# Altium footprint library IMX291.PcbLib: 11 footprints
Each footprint in its own frame and in the unit in brackets; x right, y up, seen from the top. Pads: shape width x height; smd on the part's side, far side on the other; paste and mask are expansions set on the pad; w line width, h text height; cw(c..) or ccw(c..) is an arc to the next point about the centre after c.
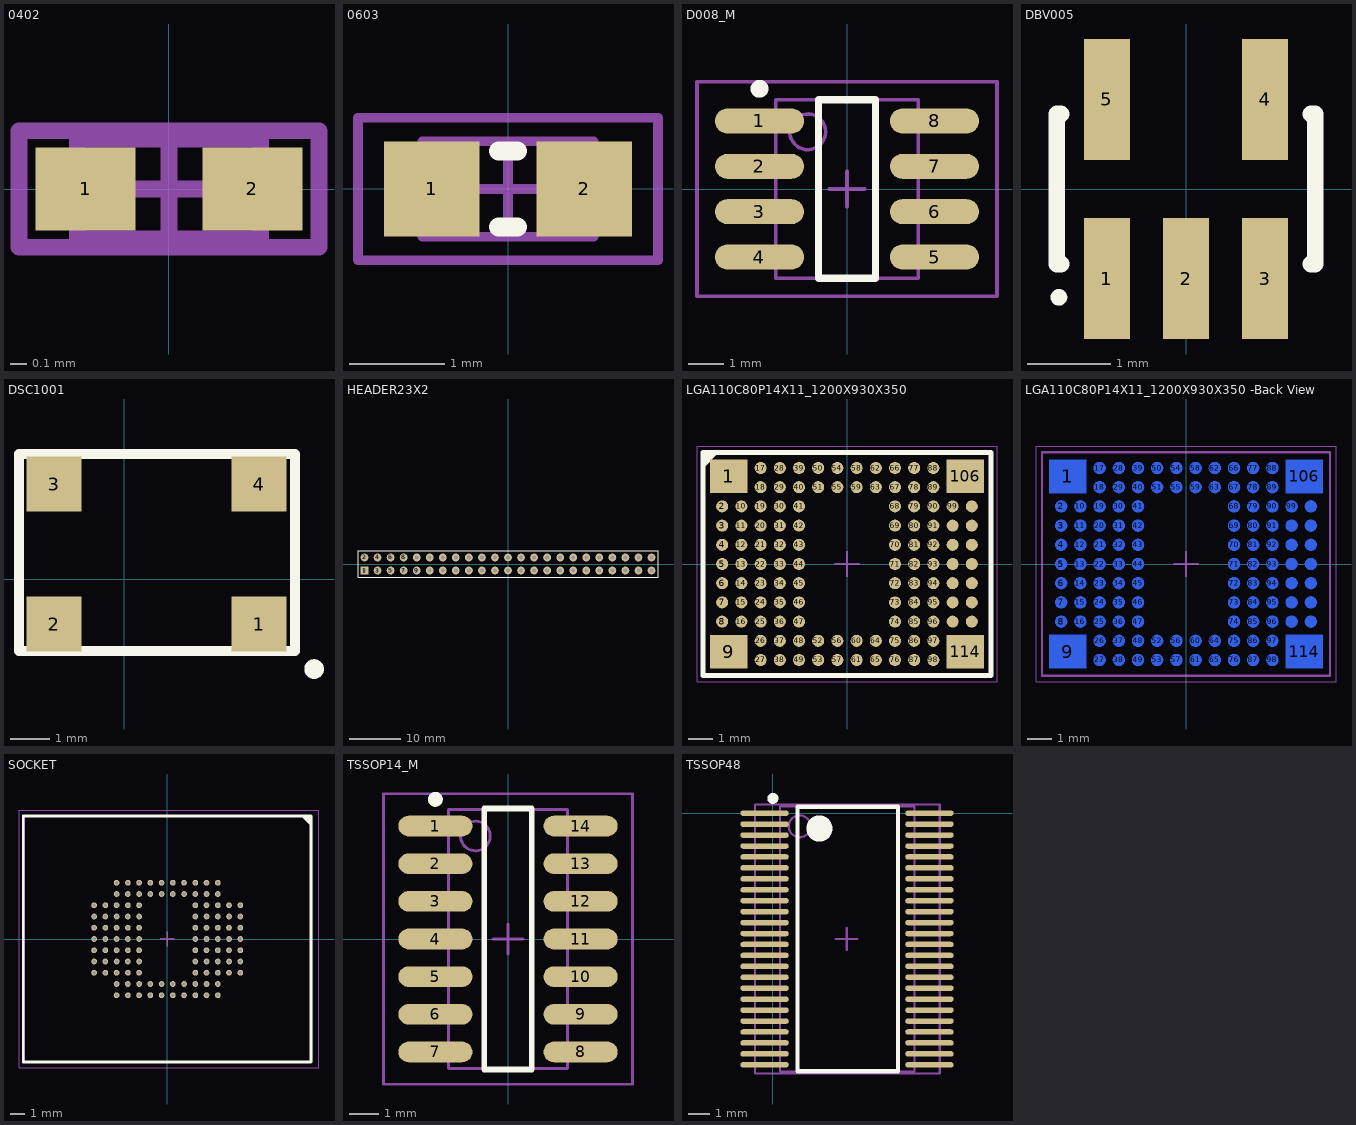
[diagram p0: the footprints below, top view; thin cyan lines are the x and y axes]

## 0402 [mm] "Chip Capacitor, Body 1.0x0.5mm, IPC High Density"
height 1.3
pads (2):
  rect 0.6x0.5 smd: 1(-0.5,0) 2(0.5,0)
Mechanical 13:
  lines w0.1: -0.55,-0.3 0.55,-0.3 0.55,0.3 -0.55,0.3 -0.55,-0.3
Mechanical 15:
  lines w0.1: -0.3,0 0.3,0 ; 0,-0.3 0,0.3 ; -0.9,-0.35 0.9,-0.35 0.9,0.35 -0.9,0.35 -0.9,-0.35
3D body: height 1.3, standoff 0, extent -0.55,-0.3 0.55,0.3

## 0603 [mm] "Chip Capacitor, 2-Leads, Body 1.6x0.8mm, IPC Medium Density"
height 0.87
pads (2):
  rect 1x1 smd: 1(-0.8,0) 2(0.8,0)
Top Overlay:
  lines w0.2: -0.1,-0.4 0.1,-0.4 ; -0.1,0.4 0.1,0.4
Mechanical 13:
  lines w0.1: -0.9,-0.5 0.9,-0.5 0.9,0.5 -0.9,0.5 -0.9,-0.5
Mechanical 15:
  lines w0.1: -0.5,0 0.5,0 ; 0,-0.5 0,0.5 ; -1.575,-0.75 1.575,-0.75 1.575,0.75 -1.575,0.75 -1.575,-0.75
3D body: height 0.87, standoff 0, extent -0.9,-0.5 0.9,0.5

## D008_M [mm] "8-Pin Small Outline Integrated Circuit 1.27 mm Pitch, IPC Low Density"
height 1.75
pads (8):
  oval 2.5x0.7 smd: 1(-2.45,1.905) 2(-2.45,0.635) 3(-2.45,-0.635) 4(-2.45,-1.905) 5(2.45,-1.905) 6(2.45,-0.635) 7(2.45,0.635) 8(2.45,1.905)
Top Overlay:
  circle w0.25: c-2.45,2.805 r0.125
  lines w0.2: -0.8,-2.5 -0.8,2.5 0.8,2.5 0.8,-2.5 -0.8,-2.5
Mechanical 13:
  circle w0.1: c-1.1,1.6 r0.5
  lines w0.1: -2,-2.5 -2,2.5 2,2.5 2,-2.5 -2,-2.5
Mechanical 15:
  lines w0.1: -0.5,0 0.5,0 ; 0,-0.5 0,0.5 ; -4.2,-3 -4.2,3 4.2,3 4.2,-3 -4.2,-3
3D body: height 1.75, standoff 0, extent -2,-2.5 2,2.5

## DBV005 [mm] "SOT-23/SC-74A; 5 Leads; Body 3 x 3 mm, inc. leads (LxW max)"
height 1.45
pads (5):
  rect 0.55x1.45 smd: 1(-0.95,-1.075) 2(0,-1.075) 3(0.95,-1.075) 4(0.95,1.075) 5(-0.95,1.075)
Top Overlay:
  circle w0.1: c-1.525,-1.3 r0.05
  lines w0.2: -1.5,-0.9 -1.55,-0.9 -1.55,0.9 -1.5,0.9 ; 1.5,-0.9 1.55,-0.9 1.55,0.9 1.5,0.9

## DSC1001 [mil]
pads (4):
  rect 55x55 smd paste+0 mask+0: 1(135,-45) 2(-70,-45) 3(-70,95) 4(135,95)
Top Overlay:
  circle w9.84: c190,-90 r4.92
Top Overlay keep-out:
  lines w10: -105,-72 -105,125 171,125 171,-72 -105,-72

## HEADER23X2 [mil] "HEADER23X2"
pads (46):
  rect 60x60 hole 30 mask+2: 1(-1100,-50)
  round 60 hole 30 mask+2: 2(-1100,50) 3(-1000,-50) 4(-1000,50) 5(-900,-50) 6(-900,50) 7(-800,-50) 8(-800,50) 9(-700,-50) 10(-700,50) 11(-600,-50) 12(-600,50) 13(-500,-50) 14(-500,50) 15(-400,-50) 16(-400,50) 17(-300,-50) 18(-300,50) 19(-200,-50) 20(-200,50) 21(-100,-50) 22(-100,50) 23(0,-50) 24(0,50) 25(100,-50) 26(100,50) 27(200,-50) 28(200,50) 29(300,-50) 30(300,50) 31(400,-50) 32(400,50) 33(500,-50) 34(500,50) 35(600,-50) 36(600,50) 37(700,-50) 38(700,50) 39(800,-50) 40(800,50) 41(900,-50) 42(900,50) 43(1000,-50) 44(1000,50) 45(1100,-50) 46(1100,50)
Top Overlay:
  lines w1: -1150,-100 -1150,100 -1050,100 1150,100 1150,-100 -1050,-100 -1150,-100
Bottom Overlay:
  text ".Designator" at 1237.5,-25 h40

## LGA110C80P14X11_1200X930X350 [mm] "LGA, 110-Leads, Body 12.00x9.30mmx3.50mm, Pitch 0.80mm"
height 3.5
pads (114):
  rect 1.55x1.4 smd: 1(-4.925,3.65) 9(-4.925,-3.65) 106(4.925,3.65) 114(4.925,-3.65)
  round 0.5 smd: 2(-5.2,2.4) 3(-5.2,1.6) 4(-5.2,0.8) 5(-5.2,0) 6(-5.2,-0.8) 7(-5.2,-1.6) 8(-5.2,-2.4) 10(-4.4,2.4) 11(-4.4,1.6) 12(-4.4,0.8) 13(-4.4,0) 14(-4.4,-0.8) 15(-4.4,-1.6) 16(-4.4,-2.4) 17(-3.6,4) 18(-3.6,3.2) 19(-3.6,2.4) 20(-3.6,1.6) 21(-3.6,0.8) 22(-3.6,0) 23(-3.6,-0.8) 24(-3.6,-1.6) 25(-3.6,-2.4) 26(-3.6,-3.2) 27(-3.6,-4) 28(-2.8,4) 29(-2.8,3.2) 30(-2.8,2.4) 31(-2.8,1.6) 32(-2.8,0.8) 33(-2.8,0) 34(-2.8,-0.8) 35(-2.8,-1.6) 36(-2.8,-2.4) 37(-2.8,-3.2) 38(-2.8,-4) 39(-2,4) 40(-2,3.2) 41(-2,2.4) 42(-2,1.6) 43(-2,0.8) 44(-2,0) 45(-2,-0.8) 46(-2,-1.6) 47(-2,-2.4) 48(-2,-3.2) 49(-2,-4) 50(-1.2,4) 51(-1.2,3.2) 52(-1.2,-3.2) 53(-1.2,-4) 54(-0.4,4) 55(-0.4,3.2) 56(-0.4,-3.2) 57(-0.4,-4) 58(0.4,4) 59(0.4,3.2) 60(0.4,-3.2) 61(0.4,-4) 62(1.2,4) 63(1.2,3.2) 64(1.2,-3.2) 65(1.2,-4) 66(2,4) 67(2,3.2) 68(2,2.4) 69(2,1.6) 70(2,0.8) 71(2,0) 72(2,-0.8) 73(2,-1.6) 74(2,-2.4) 75(2,-3.2) 76(2,-4) 77(2.8,4) 78(2.8,3.2) 79(2.8,2.4) 80(2.8,1.6) 81(2.8,0.8) 82(2.8,0) 83(2.8,-0.8) 84(2.8,-1.6) 85(2.8,-2.4) 86(2.8,-3.2) 87(2.8,-4) 88(3.6,4) 89(3.6,3.2) 90(3.6,2.4) 91(3.6,1.6) 92(3.6,0.8) 93(3.6,0) 94(3.6,-0.8) 95(3.6,-1.6) 96(3.6,-2.4) 97(3.6,-3.2) 98(3.6,-4) 99(4.4,2.4) 100(4.4,1.6) 101(4.4,0.8) 102(4.4,0) 103(4.4,-0.8) 104(4.4,-1.6) 105(4.4,-2.4) 107(5.2,2.4) 108(5.2,1.6) 109(5.2,0.8) 110(5.2,0) 111(5.2,-0.8) 112(5.2,-1.6) 113(5.2,-2.4)
Top Overlay:
  region: -5.469,4.65 -6,4.119 -6,4.65
  lines w0.2: -6,4.119 -5.469,4.65 ; -6,-4.65 6,-4.65 6,4.65 -6,4.65 -6,-4.65
Mechanical 13:
  lines w0.1: -6,-4.65 -6,4.65 6,4.65 6,-4.65 -6,-4.65
Mechanical 15:
  lines w0.05: -6.25,-4.9 -6.25,4.9 6.25,4.9 6.25,-4.9 -6.25,-4.9
  lines w0.1: -0.5,0 0.5,0 ; 0,-0.5 0,0.5
3D body: height 3.5, standoff 0.1, extent -6,-4.65 6,4.65

## LGA110C80P14X11_1200X930X350 -Back View [mm]
pads (114):
  rect 1.55x1.4 smd far side: 1(-4.925,3.65) 9(-4.925,-3.65) 106(4.925,3.65) 114(4.925,-3.65)
  round 0.5 smd far side: 2(-5.2,2.4) 3(-5.2,1.6) 4(-5.2,0.8) 5(-5.2,0) 6(-5.2,-0.8) 7(-5.2,-1.6) 8(-5.2,-2.4) 10(-4.4,2.4) 11(-4.4,1.6) 12(-4.4,0.8) 13(-4.4,0) 14(-4.4,-0.8) 15(-4.4,-1.6) 16(-4.4,-2.4) 17(-3.6,4) 18(-3.6,3.2) 19(-3.6,2.4) 20(-3.6,1.6) 21(-3.6,0.8) 22(-3.6,0) 23(-3.6,-0.8) 24(-3.6,-1.6) 25(-3.6,-2.4) 26(-3.6,-3.2) 27(-3.6,-4) 28(-2.8,4) 29(-2.8,3.2) 30(-2.8,2.4) 31(-2.8,1.6) 32(-2.8,0.8) 33(-2.8,0) 34(-2.8,-0.8) 35(-2.8,-1.6) 36(-2.8,-2.4) 37(-2.8,-3.2) 38(-2.8,-4) 39(-2,4) 40(-2,3.2) 41(-2,2.4) 42(-2,1.6) 43(-2,0.8) 44(-2,0) 45(-2,-0.8) 46(-2,-1.6) 47(-2,-2.4) 48(-2,-3.2) 49(-2,-4) 50(-1.2,4) 51(-1.2,3.2) 52(-1.2,-3.2) 53(-1.2,-4) 54(-0.4,4) 55(-0.4,3.2) 56(-0.4,-3.2) 57(-0.4,-4) 58(0.4,4) 59(0.4,3.2) 60(0.4,-3.2) 61(0.4,-4) 62(1.2,4) 63(1.2,3.2) 64(1.2,-3.2) 65(1.2,-4) 66(2,4) 67(2,3.2) 68(2,2.4) 69(2,1.6) 70(2,0.8) 71(2,0) 72(2,-0.8) 73(2,-1.6) 74(2,-2.4) 75(2,-3.2) 76(2,-4) 77(2.8,4) 78(2.8,3.2) 79(2.8,2.4) 80(2.8,1.6) 81(2.8,0.8) 82(2.8,0) 83(2.8,-0.8) 84(2.8,-1.6) 85(2.8,-2.4) 86(2.8,-3.2) 87(2.8,-4) 88(3.6,4) 89(3.6,3.2) 90(3.6,2.4) 91(3.6,1.6) 92(3.6,0.8) 93(3.6,0) 94(3.6,-0.8) 95(3.6,-1.6) 96(3.6,-2.4) 97(3.6,-3.2) 98(3.6,-4) 99(4.4,2.4) 100(4.4,1.6) 101(4.4,0.8) 102(4.4,0) 103(4.4,-0.8) 104(4.4,-1.6) 105(4.4,-2.4) 107(5.2,2.4) 108(5.2,1.6) 109(5.2,0.8) 110(5.2,0) 111(5.2,-0.8) 112(5.2,-1.6) 113(5.2,-2.4)
Bottom Overlay:
  region: -5.469,4.65 -6,4.119 -6,4.65
  lines w0.2: -6,4.119 -5.469,4.65 ; -6,-4.65 6,-4.65 6,4.65 -6,4.65 -6,-4.65
Mechanical 13:
  lines w0.1: -6,-4.65 6,-4.65 6,4.65 -6,4.65 -6,-4.65
Mechanical 15:
  lines w0.05: -6.25,-4.9 6.25,-4.9 6.25,4.9 -6.25,4.9 -6.25,-4.9
  lines w0.1: -0.5,0 0.5,0 ; 0,-0.5 0,0.5
3D body: height 3.5, standoff 0.1, extent -6,-4.65 6,4.65

## SOCKET [mil]
pads (110):
  round 16 hole 10 mask+0: 2(204.72,94.49) 3(204.72,62.99) 4(204.72,31.5) 5(204.72,0) 6(204.72,-31.5) 7(204.72,-62.99) 8(204.72,-94.49) 10(173.23,94.49) 11(173.23,62.99) 12(173.23,31.5) 13(173.23,0) 14(173.23,-31.5) 15(173.23,-62.99) 16(173.23,-94.49) 17(141.73,157.48) 18(141.73,125.98) 19(141.73,94.49) 20(141.73,62.99) 21(141.73,31.5) 22(141.73,0) 23(141.73,-31.5) 24(141.73,-62.99) 25(141.73,-94.49) 26(141.73,-125.98) 27(141.73,-157.48) 28(110.24,157.48) 29(110.24,125.98) 30(110.24,94.49) 31(110.24,62.99) 32(110.24,31.5) 33(110.24,0) 34(110.24,-31.5) 35(110.24,-62.99) 36(110.24,-94.49) 37(110.24,-125.98) 38(110.24,-157.48) 39(78.74,157.48) 40(78.74,125.98) 41(78.74,94.49) 42(78.74,62.99) 43(78.74,31.5) 44(78.74,0) 45(78.74,-31.5) 46(78.74,-62.99) 47(78.74,-94.49) 48(78.74,-125.98) 49(78.74,-157.48) 50(47.24,157.48) 51(47.24,125.98) 52(47.24,-125.98) 53(47.24,-157.48) 54(15.75,157.48) 55(15.75,125.98) 56(15.75,-125.98) 57(15.75,-157.48) 58(-15.75,157.48) 59(-15.75,125.98) 60(-15.75,-125.98) 61(-15.75,-157.48) 62(-47.24,157.48) 63(-47.24,125.98) 64(-47.24,-125.98) 65(-47.24,-157.48) 66(-78.74,157.48) 67(-78.74,125.98) 68(-78.74,94.49) 69(-78.74,62.99) 70(-78.74,31.5) 71(-78.74,0) 72(-78.74,-31.5) 73(-78.74,-62.99) 74(-78.74,-94.49) 75(-78.74,-125.98) 76(-78.74,-157.48) 77(-110.24,157.48) 78(-110.24,125.98) 79(-110.24,94.49) 80(-110.24,62.99) 81(-110.24,31.5) 82(-110.24,0) 83(-110.24,-31.5) 84(-110.24,-62.99) 85(-110.24,-94.49) 86(-110.24,-125.98) 87(-110.24,-157.48) 88(-141.73,157.48) 89(-141.73,125.98) 90(-141.73,94.49) 91(-141.73,62.99) 92(-141.73,31.5) 93(-141.73,0) 94(-141.73,-31.5) 95(-141.73,-62.99) 96(-141.73,-94.49) 97(-141.73,-125.98) 98(-141.73,-157.48) 99(-173.23,94.49) 100(-173.23,62.99) 101(-173.23,31.5) 102(-173.23,0) 103(-173.23,-31.5) 104(-173.23,-62.99) 105(-173.23,-94.49) 107(-204.72,94.49) 108(-204.72,62.99) 109(-204.72,31.5) 110(-204.72,0) 111(-204.72,-31.5) 112(-204.72,-62.99) 113(-204.72,-94.49)
Top Overlay:
  region: 384.55,340 405.45,319.1 405.45,340
  lines w7.87: 380.32,343.07 401.22,322.17 ; -403,-344 403,-344 403,344 -403,344 -403,-344
Mechanical 13:
  lines w3.94: -405,-345 405,-345 405,345 -236.22,345 ; -400,-345 -400,345
Mechanical 15:
  lines w1.97: -415,-360 425,-360 425,360 -415,360 -415,-360
  lines w3.94: -19.68,0 19.68,0 ; 0,-19.68 0,19.69
3D body: height 137.8, standoff 3.94, extent -405,-345 405,345

## TSSOP14_M [mm] "14-Pin Small Outline Integrated Circuit 1.27 mm Pitch, IPC Low Density"
height 1.75
pads (14):
  oval 2.5x0.7 smd: 1(-2.45,3.81) 2(-2.45,2.54) 3(-2.45,1.27) 4(-2.45,0) 5(-2.45,-1.27) 6(-2.45,-2.54) 7(-2.45,-3.81) 8(2.45,-3.81) 9(2.45,-2.54) 10(2.45,-1.27) 11(2.45,0) 12(2.45,1.27) 13(2.45,2.54) 14(2.45,3.81)
Top Overlay:
  circle w0.25: c-2.45,4.71 r0.125
  lines w0.2: -0.8,-4.4 0.8,-4.4 0.8,4.4 -0.8,4.4 -0.8,-4.4
Mechanical 13:
  circle w0.1: c-1.1,3.475 r0.5
  lines w0.1: -2,-4.375 2,-4.375 2,4.375 -2,4.375 -2,-4.375
Mechanical 15:
  lines w0.1: -0.5,0 0.5,0 ; 0,-0.5 0,0.5 ; -4.2,-4.9 4.2,-4.9 4.2,4.9 -4.2,4.9 -4.2,-4.9
3D body: height 1.75, standoff 0, extent -2,-4.375 2,4.375

## TSSOP48 [mm]
pads (48):
  oval 2.212x0.25 smd: 1(-0.381,0) 2(-0.381,-0.5) 3(-0.381,-1) 4(-0.381,-1.5) 5(-0.381,-2) 6(-0.381,-2.5) 7(-0.381,-3) 8(-0.381,-3.5) 9(-0.381,-4) 10(-0.381,-4.5) 11(-0.381,-5) 12(-0.381,-5.5) 13(-0.381,-6) 14(-0.381,-6.5) 15(-0.381,-7) 16(-0.381,-7.5) 17(-0.381,-8) 18(-0.381,-8.5) 19(-0.381,-9) 20(-0.381,-9.5) 21(-0.381,-10) 22(-0.381,-10.5) 23(-0.381,-11) 24(-0.381,-11.5) 25(7.154,-11.5) 26(7.154,-11) 27(7.154,-10.5) 28(7.154,-10) 29(7.154,-9.5) 30(7.154,-9) 31(7.154,-8.5) 32(7.154,-8) 33(7.154,-7.5) 34(7.154,-7) 35(7.154,-6.5) 36(7.154,-6) 37(7.154,-5.5) 38(7.154,-5) 39(7.154,-4.5) 40(7.154,-4) 41(7.154,-3.5) 42(7.154,-3) 43(7.154,-2.5) 44(7.154,-2) 45(7.154,-1.5) 46(7.154,-1) 47(7.154,-0.5) 48(7.154,0)
Top Overlay:
  circle w0.25: c0,0.675 r0.125
  circle w0.6: c2.125,-0.7 r0.3
  lines w0.2: 1.125,-11.8 1.125,0.3 5.715,0.3 5.715,-11.8 1.125,-11.8
Mechanical 13:
  circle w0.1: c1.225,-0.6 r0.5
  lines w0.1: 0.325,-11.8 0.325,0.3 6.477,0.3 6.477,-11.8 0.325,-11.8
Mechanical 15:
  lines w0.1: 2.873,-5.75 3.873,-5.75 ; 3.373,-6.25 3.373,-5.25 ; 7.62,-11.9 -0.825,-11.9 -0.825,0.4 7.62,0.4 ; 7.623,-11.9 7.623,0.4
3D body: height 1.2, standoff 0, extent 0.325,-11.8 6.477,0.3